# Altium schematic symbol library stm32f103cbt6.SchLib: 1 symbol
Pins are listed as number, name and electrical type; pins without a type are passive.

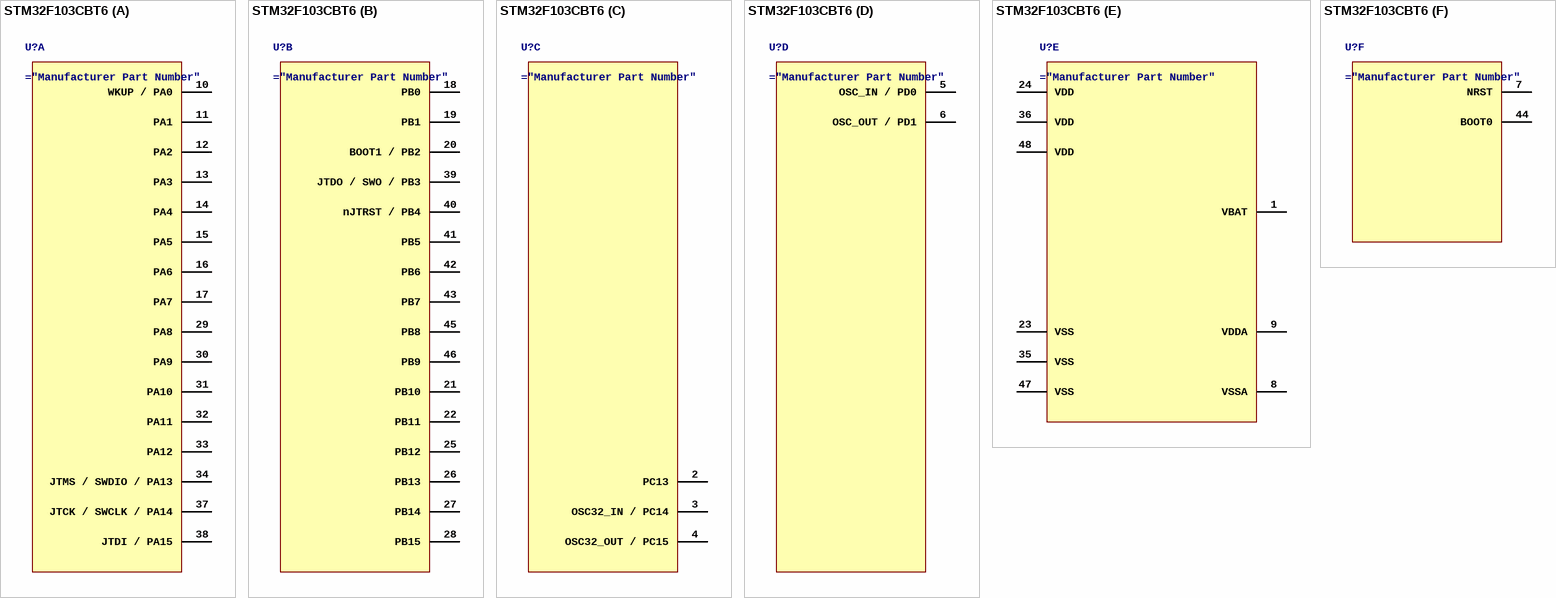
[diagram p0: symbol STM32F103CBT6]

## STM32F103CBT6
designator U?
ARM Cortex-M3 STM32 F1 Microcontroller 32-Bit 72MHz 128kB FLASH LQFP48 STM32F103CBT6
part A pins: 10 WKUP / PA0, 11 PA1, 12 PA2, 13 PA3, 14 PA4, 15 PA5, 16 PA6, 17 PA7, 29 PA8, 30 PA9, 31 PA10, 32 PA11, 33 PA12, 34 JTMS / SWDIO / PA13, 37 JTCK / SWCLK / PA14, 38 JTDI / PA15
part B pins: 18 PB0, 19 PB1, 20 BOOT1 / PB2, 21 PB10, 22 PB11, 25 PB12, 26 PB13, 27 PB14, 28 PB15, 39 JTDO / SWO / PB3, 40 nJTRST / PB4, 41 PB5, 42 PB6, 43 PB7, 45 PB8, 46 PB9
part C pins: 2 PC13, 3 OSC32_IN / PC14, 4 OSC32_OUT / PC15
part D pins: 5 OSC_IN / PD0, 6 OSC_OUT / PD1
part E pins: 1 VBAT, 8 VSSA, 9 VDDA, 23 VSS, 24 VDD, 35 VSS, 36 VDD, 47 VSS, 48 VDD
part F pins: 7 NRST, 44 BOOT0